# Altium footprint library master_pcb.PcbLib: 37 footprints (part 1 of 3)
Each footprint in its own frame and in the unit in brackets; x right, y up, seen from the top. Pads: shape width x height; smd on the part's side, far side on the other; paste and mask are expansions set on the pad; w line width, h text height; cw(c..) or ccw(c..) is an arc to the next point about the centre after c.
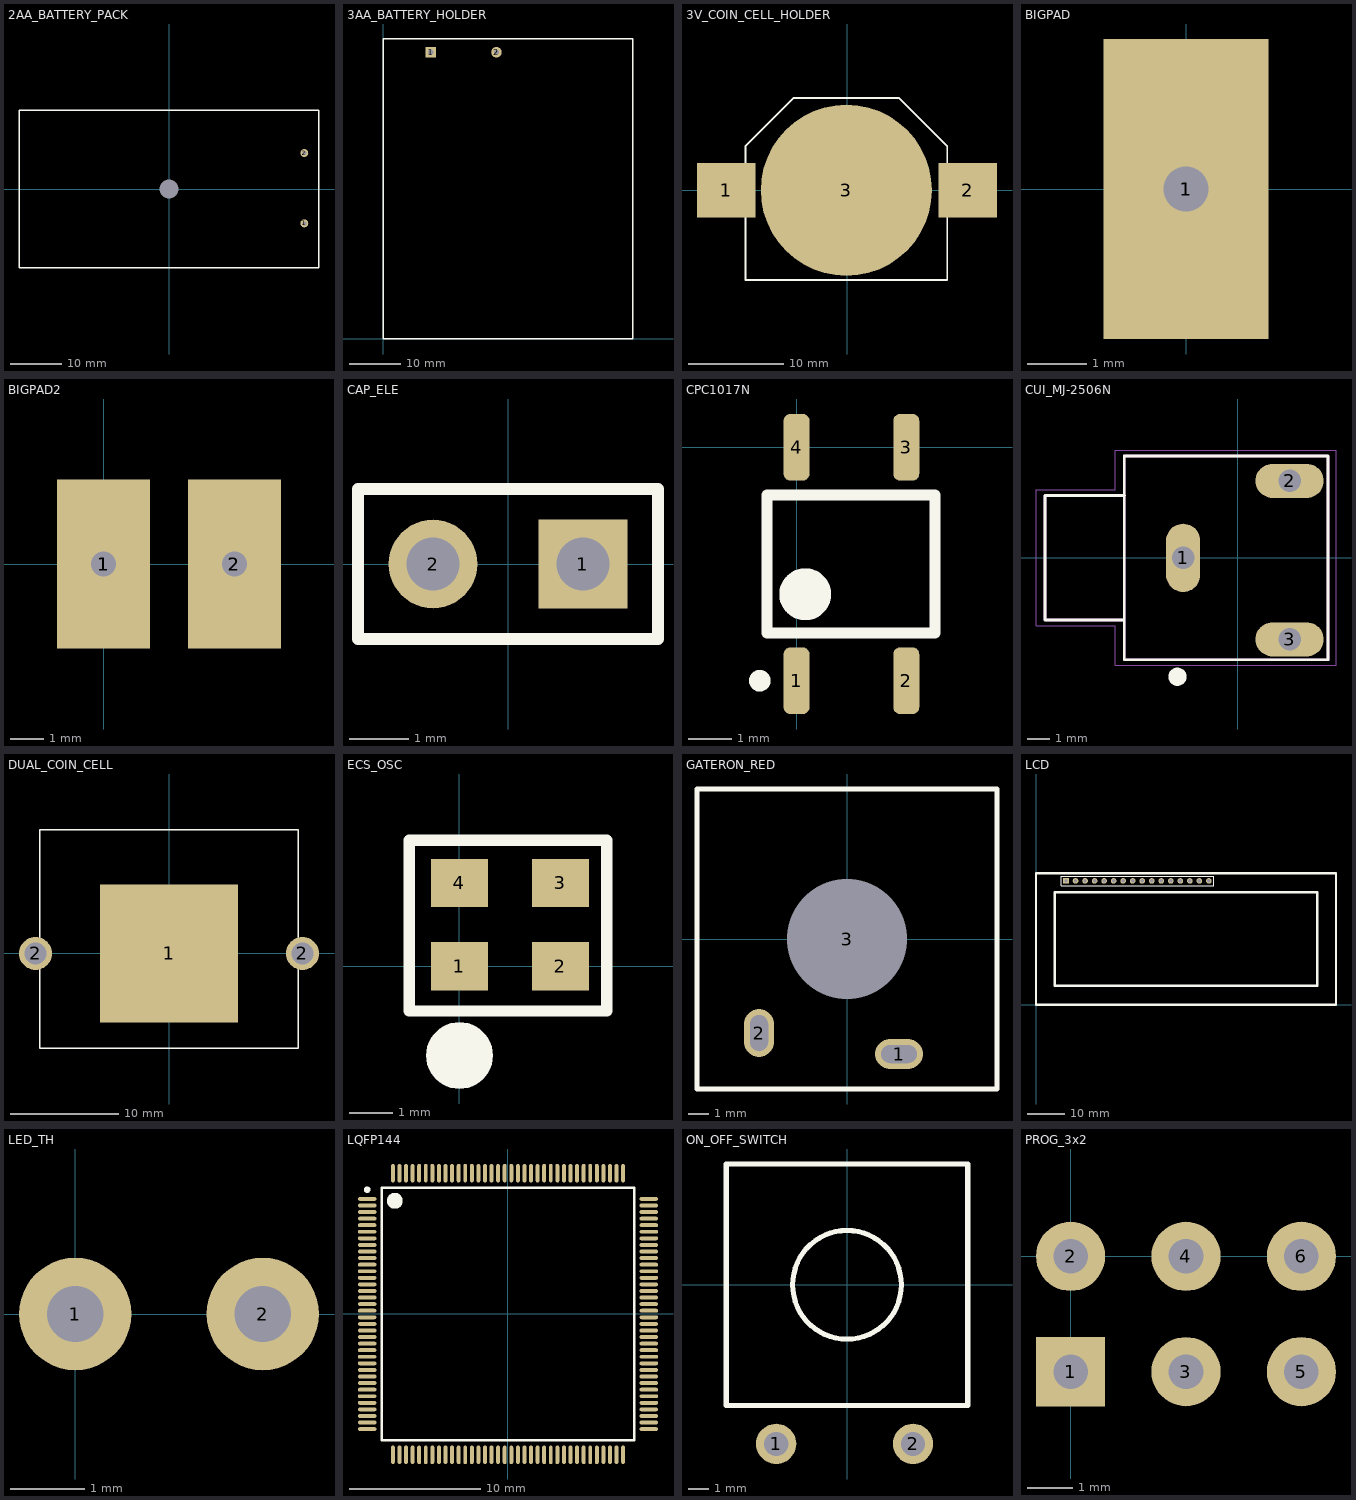
[diagram p0: the footprints below, top view; thin cyan lines are the x and y axes]

## 2AA_BATTERY_PACK [mil]
pads (3):
  round 60 hole 30: 1(1029.92,-261.02) 2(1029.92,274.02)
  round 0 hole 143.7: 55(0,0)
Top Overlay:
  lines w10: -1141.73,-600 1141.73,-600 1141.73,600.79 -1141.73,600.79 -1141.73,-600

## 3AA_BATTERY_HOLDER [mil]
pads (2):
  rect 80x80 hole 40: 1(363,2182)
  round 80 hole 40: 2(863,2182)
Top Overlay:
  lines w10: 0,0 0,2283.46 1901.57,2283.46 1901.57,0 0,0

## 3V_COIN_CELL_HOLDER [mm]
pads (3):
  rect 6.1x5.7 smd: 1(-12.636,0) 2(12.636,0)
  round 17.9 smd: 3(-0.066,0)
Top Overlay:
  lines w0.2: -10.616,-9.398 10.485,-9.398 10.485,4.602 5.435,9.652 -5.566,9.652 -10.616,4.602 -10.616,-9.398

## BIGPAD [mil]
pads (2):
  rect 110x200 smd: 1(0,0)
  round 60 hole 30: 1(0,0)

## BIGPAD2 [mil]
pads (4):
  rect 110x200 smd: 1(0,0) 2(155,0)
  round 60 hole 30: 1(0,0) 2(155,0)

## CAP_ELE [mm]
pads (2):
  rect 1.5x1.5 hole 0.9: 1(1.27,0)
  round 1.5 hole 0.9: 2(-1.27,0)
Top Overlay:
  lines w0.2: -2.54,-1.27 -2.54,1.27 2.54,1.27 2.54,-1.27 -2.54,-1.27

## CPC1017N [mm]
pads (4):
  rrect50% 0.6x1.54 smd: 1(0,-5.4) 2(2.54,-5.4) 3(2.54,0) 4(0,0)
Top Overlay:
  circle w0.6: c0.2,-3.4 r0.3
  circle w0.25: c-0.85,-5.4 r0.125
  lines w0.254: -0.68,-4.3 -0.68,-1.1 3.2,-1.1 3.2,-4.3 -0.68,-4.3

## CUI_MJ-2506N [mm]
pads (3):
  oval 1.508x3.016 hole 1 square: 1(-2.4,0)
  oval 3.016x1.508 hole 1 square: 2(2.3,3.4) 3(2.3,-3.6)
Top Overlay:
  circle w0.4: c-2.65,-5.25 r0.2
  lines w0.127: -4.99,2.75 -8.5,2.75 -8.5,-2.75 -5,-2.75 ; -5,-2.75 -5,4.5 4,4.5 4,-4.5 -5,-4.5 -5,-2.75
Mechanical 13:
  circle w0.4: c-2.4,0 r0.2
  lines w0.127: -5,-2.75 -8.5,-2.75 -8.5,2.75 -5,2.75 ; -5,-2.75 -5,2.75 ; -5,-2.75 -5,-4.5 4,-4.5 4,4.5 -5,4.5 -5,2.75
Mechanical 15:
  lines w0.05: -8.9,-3 -8.9,3 -5.4,3 -5.4,4.75 4.35,4.75 4.35,-4.75 -5.4,-4.75 -5.4,-3 -8.9,-3

## DUAL_COIN_CELL [mil]
pads (3):
  rect 500x500 smd: 1(0,0)
  round 120 hole 80: 2(-485,0) 2(485,0)
Top Overlay:
  lines w5: -470,-345 470,-345 470,450 -470,450 -470,-345

## ECS_OSC [mm]
pads (5):
  rect 1.3x1.1 smd: 1(0,0) 2(2.3,0) 3(2.3,1.9) 4(0,1.9)
  round 1.524 on Top Overlay: ""(0,-2.032)
Top Overlay:
  lines w0.254: -1.143,-1.016 3.353,-1.016 3.353,2.87 -1.143,2.87 -1.143,-1.016

## GATERON_RED [mm]
pads (3):
  oval 2.4x1.5 hole 0.9 slot 1.8 at 0 deg: 1(2.6,-5.75)
  oval 1.5x2.4 hole 0.9 slot 1.8 at 90 deg: 2(-4.4,-4.7)
  round 1.524 hole 6 unplated: 3(0,0)
Top Overlay:
  lines w0.254: -7.5,-7.5 7.5,-7.5 7.5,7.5 -7.5,7.5 -7.5,-7.5

## LCD [mm]
pads (16):
  rect 1.5x1.5 hole 0.9: 1(8,33)
  round 1.5 hole 0.9: 2(10.54,33) 3(13.08,33) 4(15.62,33) 5(18.16,33) 6(20.7,33) 7(23.24,33) 8(25.78,33) 9(28.32,33) 10(30.86,33) 11(33.4,33) 12(35.94,33) 13(38.48,33) 14(41.02,33) 15(43.56,33) 16(46.1,33)
Top Overlay:
  lines w0.2: 6.73,31.73 6.73,34.27 8.635,34.27 47.37,34.27 47.37,31.73 6.73,31.73
  lines w0.635: 0,0 80,0 80,35 0,35 0,0 ; 5,5 75,5 75,30 5,30 5,5

## LED_TH [mil]
pads (2):
  round 60 hole 30: 1(0,0) 2(100,0)

## LQFP144 [mm] "TSQFP, 144-Leads, Body 20.00x20.00mm, Pitch 0.50mm, IPC Medium Density"
height 1.6
pads (144):
  oval 1.4x0.3 smd: 1(-10.7,8.75) 2(-10.7,8.25) 3(-10.7,7.75) 4(-10.7,7.25) 5(-10.7,6.75) 6(-10.7,6.25) 7(-10.7,5.75) 8(-10.7,5.25) 9(-10.7,4.75) 10(-10.7,4.25) 11(-10.7,3.75) 12(-10.7,3.25) 13(-10.7,2.75) 14(-10.7,2.25) 15(-10.7,1.75) 16(-10.7,1.25) 17(-10.7,0.75) 18(-10.7,0.25) 19(-10.7,-0.25) 20(-10.7,-0.75) 21(-10.7,-1.25) 22(-10.7,-1.75) 23(-10.7,-2.25) 24(-10.7,-2.75) 25(-10.7,-3.25) 26(-10.7,-3.75) 27(-10.7,-4.25) 28(-10.7,-4.75) 29(-10.7,-5.25) 30(-10.7,-5.75) 31(-10.7,-6.25) 32(-10.7,-6.75) 33(-10.7,-7.25) 34(-10.7,-7.75) 35(-10.7,-8.25) 36(-10.7,-8.75) 73(10.7,-8.75) 74(10.7,-8.25) 75(10.7,-7.75) 76(10.7,-7.25) 77(10.7,-6.75) 78(10.7,-6.25) 79(10.7,-5.75) 80(10.7,-5.25) 81(10.7,-4.75) 82(10.7,-4.25) 83(10.7,-3.75) 84(10.7,-3.25) 85(10.7,-2.75) 86(10.7,-2.25) 87(10.7,-1.75) 88(10.7,-1.25) 89(10.7,-0.75) 90(10.7,-0.25) 91(10.7,0.25) 92(10.7,0.75) 93(10.7,1.25) 94(10.7,1.75) 95(10.7,2.25) 96(10.7,2.75) 97(10.7,3.25) 98(10.7,3.75) 99(10.7,4.25) 100(10.7,4.75) 101(10.7,5.25) 102(10.7,5.75) 103(10.7,6.25) 104(10.7,6.75) 105(10.7,7.25) 106(10.7,7.75) 107(10.7,8.25) 108(10.7,8.75)
  oval 0.3x1.4 smd: 37(-8.75,-10.7) 38(-8.25,-10.7) 39(-7.75,-10.7) 40(-7.25,-10.7) 41(-6.75,-10.7) 42(-6.25,-10.7) 43(-5.75,-10.7) 44(-5.25,-10.7) 45(-4.75,-10.7) 46(-4.25,-10.7) 47(-3.75,-10.7) 48(-3.25,-10.7) 49(-2.75,-10.7) 50(-2.25,-10.7) 51(-1.75,-10.7) 52(-1.25,-10.7) 53(-0.75,-10.7) 54(-0.25,-10.7) 55(0.25,-10.7) 56(0.75,-10.7) 57(1.25,-10.7) 58(1.75,-10.7) 59(2.25,-10.7) 60(2.75,-10.7) 61(3.25,-10.7) 62(3.75,-10.7) 63(4.25,-10.7) 64(4.75,-10.7) 65(5.25,-10.7) 66(5.75,-10.7) 67(6.25,-10.7) 68(6.75,-10.7) 69(7.25,-10.7) 70(7.75,-10.7) 71(8.25,-10.7) 72(8.75,-10.7) 109(8.75,10.7) 110(8.25,10.7) 111(7.75,10.7) 112(7.25,10.7) 113(6.75,10.7) 114(6.25,10.7) 115(5.75,10.7) 116(5.25,10.7) 117(4.75,10.7) 118(4.25,10.7) 119(3.75,10.7) 120(3.25,10.7) 121(2.75,10.7) 122(2.25,10.7) 123(1.75,10.7) 124(1.25,10.7) 125(0.75,10.7) 126(0.25,10.7) 127(-0.25,10.7) 128(-0.75,10.7) 129(-1.25,10.7) 130(-1.75,10.7) 131(-2.25,10.7) 132(-2.75,10.7) 133(-3.25,10.7) 134(-3.75,10.7) 135(-4.25,10.7) 136(-4.75,10.7) 137(-5.25,10.7) 138(-5.75,10.7) 139(-6.25,10.7) 140(-6.75,10.7) 141(-7.25,10.7) 142(-7.75,10.7) 143(-8.25,10.7) 144(-8.75,10.7)
Top Overlay:
  circle w0.6: c-8.6,8.6 r0.3
  circle w0.25: c-10.7,9.45 r0.125
  lines w0.2: -9.6,-9.6 9.6,-9.6 9.6,9.6 -9.6,9.6 -9.6,-9.6

## ON_OFF_SWITCH [mm]
pads (2):
  round 2 hole 1.2: 1(-3.517,-7.9) 2(3.283,-7.9)
Top Overlay:
  circle w0.254: c0,0 r2.7
  lines w0.254: -6,-6 -6,6 6,6 6,-6 -6,-6

## PROG_3x2 [mil]
pads (6):
  rect 60x60 hole 30: 1(0,-100)
  round 60 hole 30: 2(0,0) 3(100,-100) 4(100,0) 5(200,-100) 6(200,0)